# Altium schematic symbol library Schottky Diode SMC.SchLib: 1 symbol
Pins are listed as number, name and electrical type; pins without a type are passive.

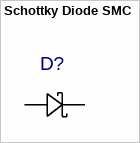
[diagram p0: symbol Schottky Diode SMC]

## Schottky Diode SMC
designator D?
Manufacturer_Part_Number: MBRS320; C: Copyright (C) 2015 Accelerated Designs. All rights reserved; Vendor: Vishay; Built_By: EMA_UL_Team
footprint DIODE_DO214AA
pins: 1, 2
1 alternate drawing of the same symbol